# EAGLE library part ANAMUX (library BadassMIDI)
Footprint for the BadassMIDI ANAMUX, roxxxtar.com/badassmidi-anamux
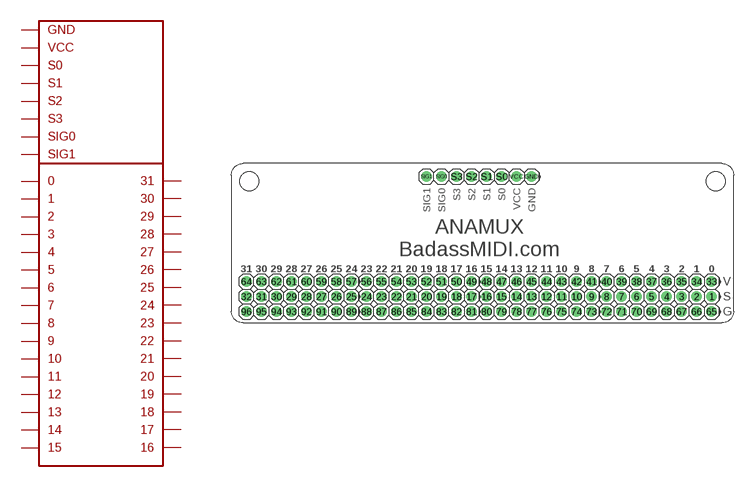
[diagram p2: symbol with the pads of ANAMUX; footprint ANAMUX]

Designator prefix U

## ANAMUX  [ANAMUX]
1  0
2  1
3  2
4  3
5  4
6  5
7  6
8  7
9  8
10  9
11  10
12  11
13  12
14  13
15  14
16  15
17  16
18  17
19  18
20  19
21  20
22  21
23  22
24  23
25  24
26  25
27  26
28  27
29  28
30  29
31  30
32  31
33  VCC
34  VCC
35  VCC
36  VCC
37  VCC
38  VCC
39  VCC
40  VCC
41  VCC
42  VCC
43  VCC
44  VCC
45  VCC
46  VCC
47  VCC
48  VCC
49  VCC
50  VCC
51  VCC
52  VCC
53  VCC
54  VCC
55  VCC
56  VCC
57  VCC
58  VCC
59  VCC
60  VCC
61  VCC
62  VCC
63  VCC
64  VCC
65  GND
66  GND
67  GND
68  GND
69  GND
70  GND
71  GND
72  GND
73  GND
74  GND
75  GND
76  GND
77  GND
78  GND
79  GND
80  GND
81  GND
82  GND
83  GND
84  GND
85  GND
86  GND
87  GND
88  GND
89  GND
90  GND
91  GND
92  GND
93  GND
94  GND
95  GND
96  GND
GND  GND
S0  S0
S1  S1
S2  S2
S3  S3
SIG0  SIG0
SIG1  SIG1
VCC  VCC

## Footprint ANAMUX (pad centres in mm)
drill 0.965 pad 1.778: 1 81.28,4.445; 2 78.74,4.445; 3 76.2,4.445; 4 73.66,4.445; 5 71.12,4.445; 6 68.58,4.445; 7 66.04,4.445; 8 63.5,4.445; 9 60.96,4.445; 10 58.42,4.445; 11 55.88,4.445; 12 53.34,4.445; 13 50.8,4.445; 14 48.26,4.445; 15 45.72,4.445; 16 43.18,4.445; 17 40.64,4.445; 18 38.1,4.445; 19 35.56,4.445; 20 33.02,4.445; 21 30.48,4.445; 22 27.94,4.445; 23 25.4,4.445; 24 22.86,4.445; 25 20.32,4.445; 26 17.78,4.445; 27 15.24,4.445; 28 12.7,4.445; 29 10.16,4.445; 30 7.62,4.445; 31 5.08,4.445; 32 2.54,4.445; 33 81.28,6.985; 34 78.74,6.985; 35 76.2,6.985; 36 73.66,6.985; 37 71.12,6.985; 38 68.58,6.985; 39 66.04,6.985; 40 63.5,6.985; 41 60.96,6.985; 42 58.42,6.985; 43 55.88,6.985; 44 53.34,6.985; 45 50.8,6.985; 46 48.26,6.985; 47 45.72,6.985; 48 43.18,6.985; 49 40.64,6.985; 50 38.1,6.985; 51 35.56,6.985; 52 33.02,6.985; 53 30.48,6.985; 54 27.94,6.985; 55 25.4,6.985; 56 22.86,6.985; 57 20.32,6.985; 58 17.78,6.985; 59 15.24,6.985; 60 12.7,6.985; 61 10.16,6.985; 62 7.62,6.985; 63 5.08,6.985; 64 2.54,6.985; 65 81.28,1.905; 66 78.74,1.905; 67 76.2,1.905; 68 73.66,1.905; 69 71.12,1.905; 70 68.58,1.905; 71 66.04,1.905; 72 63.5,1.905; 73 60.96,1.905; 74 58.42,1.905; 75 55.88,1.905; 76 53.34,1.905; 77 50.8,1.905; 78 48.26,1.905; 79 45.72,1.905; 80 43.18,1.905; 81 40.64,1.905; 82 38.1,1.905; 83 35.56,1.905; 84 33.02,1.905; 85 30.48,1.905; 86 27.94,1.905; 87 25.4,1.905; 88 22.86,1.905; 89 20.32,1.905; 90 17.78,1.905; 91 15.24,1.905; 92 12.7,1.905; 93 10.16,1.905; 94 7.62,1.905; 95 5.08,1.905; 96 2.54,1.905; GND 50.8,24.765; S0 45.72,24.765; S1 43.18,24.765; S2 40.64,24.765; S3 38.1,24.765; SIG0 35.56,24.765; SIG1 33.02,24.765; VCC 48.26,24.765
hole 3.2 at 3,24
hole 3.2 at 82,24